# Altium footprint library ZD6-2W.PcbLib: 1 footprints
Each footprint in its own frame and in the unit in brackets; x right, y up, seen from the top. Pads: shape width x height; smd on the part's side, far side on the other; paste and mask are expansions set on the pad; w line width, h text height; cw(c..) or ccw(c..) is an arc to the next point about the centre after c.
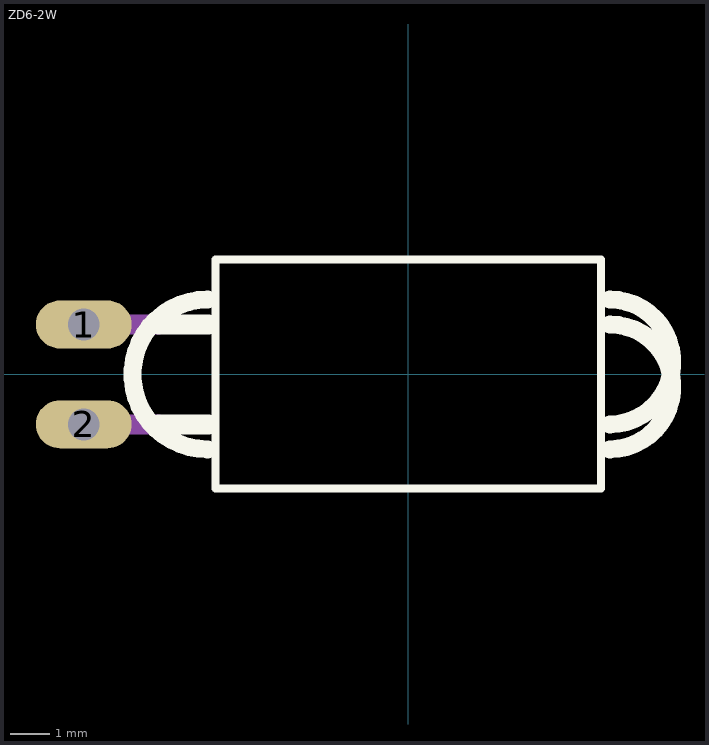
[diagram p0: the footprint, top view; thin cyan lines are the x and y axes]

## ZD6-2W [mil]
pads (2):
  oval 96x48 hole 32: 1(-325,50) 2(-325,-50)
Top Overlay:
  lines w8: -192.91,-114.17 193,-114.17 193,115 -192.91,115 -192.91,-114.17
  lines w18: -201.13,-75 cw(c-201.13,0) -201.13,75 ; 202,-75 ccw(c202,-12.5) 202,50 ; 202,-50 ccw(c202,12.5) 202,75
  lines w20: -250,-50 -200,-50 ; -250,50 -200,50
Mechanical 16:
  lines w20: -325,-50 -250,-50 ; -325,50 -250,50